# Altium integrated library hirose.IntLib: 1 symbol
Pins are listed as number, name and electrical type; pins without a type are passive.

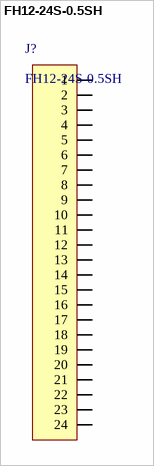
[diagram p0: symbol FH12-24S-0.5SH]

## FH12-24S-0.5SH
designator J?
ONN FFC BOTTOM 24POS 0.50MM R/A
footprint FH12-24S-0.5SH
pins: 1, 2, 3, 4, 5, 6, 7, 8, 9, 10, 11, 12, 13, 14, 15, 16, 17, 18, 19, 20, 21, 22, 23, 24